# EAGLE library part 749023113C (library WE-LAN)
WE-LAN LAN Transformer Characteristics Suitable for industrial temperatures from –40 °C up to +125 °C Different version available from 1.5 kV isolation to 6 kV. HPLE version Additional CMC for higher attenuation Non PoE, PoE and PoE++ up to 2 A PoE up to 150 W and speeds up to 1 Gbit/s Available in SMT Compliant with standards: IEEE 802.3u, IEEE 802.3ab, IEEE 802.3af, IEEE 802.3at and IEEE 802.3bt UL Recognized Applications Compatible to Industrial Ethernet systems like EtherCAT or Profinet Compliant with most IC’s for Ethernet applications such as Microchip, Texas Instruments, Broadcom, Linear Technology Router, switches, sensors, robotics, automation, IP cameras, IoT applications Details see: www.we-online.com/en/components/products/WE-LAN Updated by Ella Wu 2025-05-13 2025 (C) Würth Elektronik
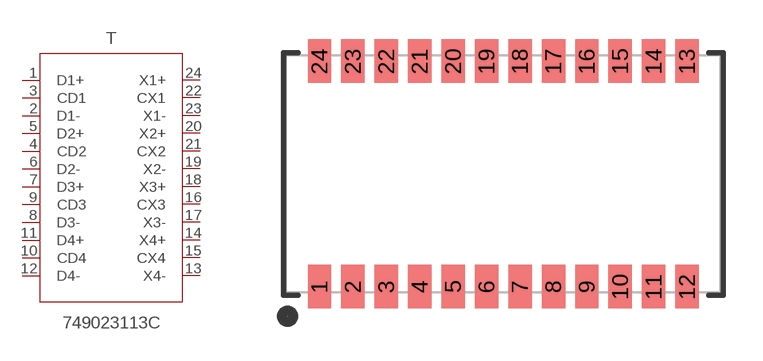
[diagram p24: symbol with the pads of 749023113C; footprint 749023113C]

Designator prefix T

## 749023113C (DATA-RATE: 10/100/1000BASE-T; DATASHEET: https://www.we-online.com/redexpert/spec/749023113C?ae; HPLE: No; IMPROVED-CMRR: No; L: 350 uH; MOUNT: SMT; OPERATING-TEMPERATURE: -40 °C up to +85 °C; PART-NUMBER: 749023113C; POE: PoE (up to 350 mA); PORTS: 1; VALUE: 749023113C; VT: 1500 V (RMS))  [749023113C]
1  D1+  pas
2  D1-  pas
3  CD1  pas
4  CD2  pas
5  D2+  pas
6  D2-  pas
7  D3+  pas
8  D3-  pas
9  CD3  pas
10  CD4  pas
11  D4+  pas
12  D4-  pas
13  X4-  pas
14  X4+  pas
15  CX4  pas
16  CX3  pas
17  X3-  pas
18  X3+  pas
19  X2-  pas
20  X2+  pas
21  CX2  pas
22  CX1  pas
23  X1-  pas
24  X1+  pas

## Footprint 749023113C (pad centres in mm)
WE-LAN LAN Transformer 10/100/1000BASE-T, 1Port, SMT
smd 0.89 x 1.65: 1 -6.985,-4.28; 2 -5.715,-4.28; 3 -4.445,-4.28; 4 -3.175,-4.28; 5 -1.905,-4.28; 6 -0.635,-4.28; 7 0.635,-4.28; 8 1.905,-4.28; 9 3.175,-4.28; 10 4.445,-4.28; 11 5.715,-4.28; 12 6.985,-4.28; 13 6.985,4.28; 14 5.715,4.28; 15 4.445,4.28; 16 3.175,4.28; 17 1.905,4.28; 18 0.635,4.28; 19 -0.635,4.28; 20 -1.905,4.28; 21 -3.175,4.28; 22 -4.445,4.28; 23 -5.715,4.28; 24 -6.985,4.28